# Altium footprint library TACTB-64K-F.PcbLib: 1 footprints
Each footprint in its own frame and in the unit in brackets; x right, y up, seen from the top. Pads: shape width x height; smd on the part's side, far side on the other; paste and mask are expansions set on the pad; w line width, h text height; cw(c..) or ccw(c..) is an arc to the next point about the centre after c.
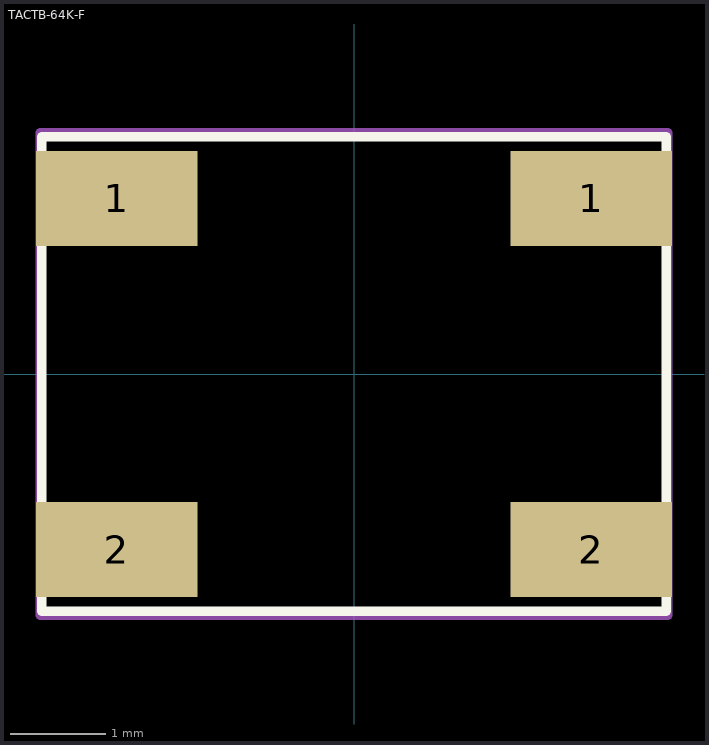
[diagram p0: the footprint, top view; thin cyan lines are the x and y axes]

## TACTB-64K-F [mm]
height 0.9
pads (4):
  rect 1.7x1 smd mask+0.015: 1(-2.5,1.85) 1(2.5,1.85) 2(-2.5,-1.85) 2(2.5,-1.85)
Top Overlay:
  lines w0.1: -3.288,-2.5 -3.288,2.5 3.287,2.5 3.287,-2.5 -3.288,-2.5
Top Assembly:
  lines w0.1: -3.302,-2.54 -3.302,2.54 3.302,2.54 3.302,-2.54 -3.302,-2.54
  text "'.Designator'" at -0.95,-0.35 h0.7
3D body "tactile buton.x_t": height 2.5, standoff 0, extent -3.287,-2.5 3.313,2.5